# EAGLE library part 418317170903 (library Wurth_Elektronik_Electromechanic_Switchs_rev15b)
WS-PT 2.54 mm piano type compact THT Dip Switch with flat actuator, 3 Pole
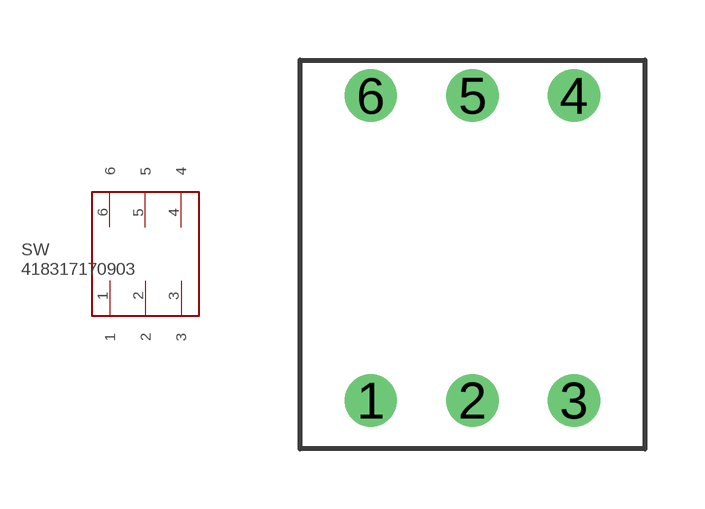
[diagram p100: symbol with the pads of 418317170903; footprint 418317170903]

Designator prefix SW

## 418317170903  [418317170903]
1  1
2  2
3  3
4  4
5  5
6  6

## Footprint 418317170903 (pad centres in mm)
WS-PT 2.54 mm piano type compact THT Dip Switch with flat actuator, 3 Pole
drill 0.8: 1 0,-3.81; 2 2.54,-3.81; 3 5.08,-3.81; 4 5.08,3.81; 5 2.54,3.81; 6 0,3.81